# Altium schematic symbol library LvlConverter_Adg3304.SchLib: 1 symbol
Pins are listed as number, name and electrical type; pins without a type are passive.

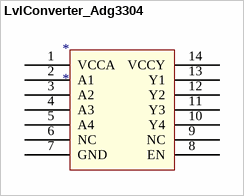
[diagram p0: symbol LvlConverter_Adg3304]

## LvlConverter_Adg3304
designator *
footprint LvlConverter_Adg3304
pins: 1 VCCA (power), 2 A1 (power), 3 A2 (power), 4 A3 (power), 5 A4 (power), 6 NC (power), 7 GND (power), 8 EN (power), 9 NC (power), 10 Y4 (power), 11 Y3 (power), 12 Y2 (power), 13 Y1 (power), 14 VCCY (power)